# Altium schematic symbol library WeatherStations.SchLib: 10 symbols
Pins are listed as number, name and electrical type; pins without a type are passive.

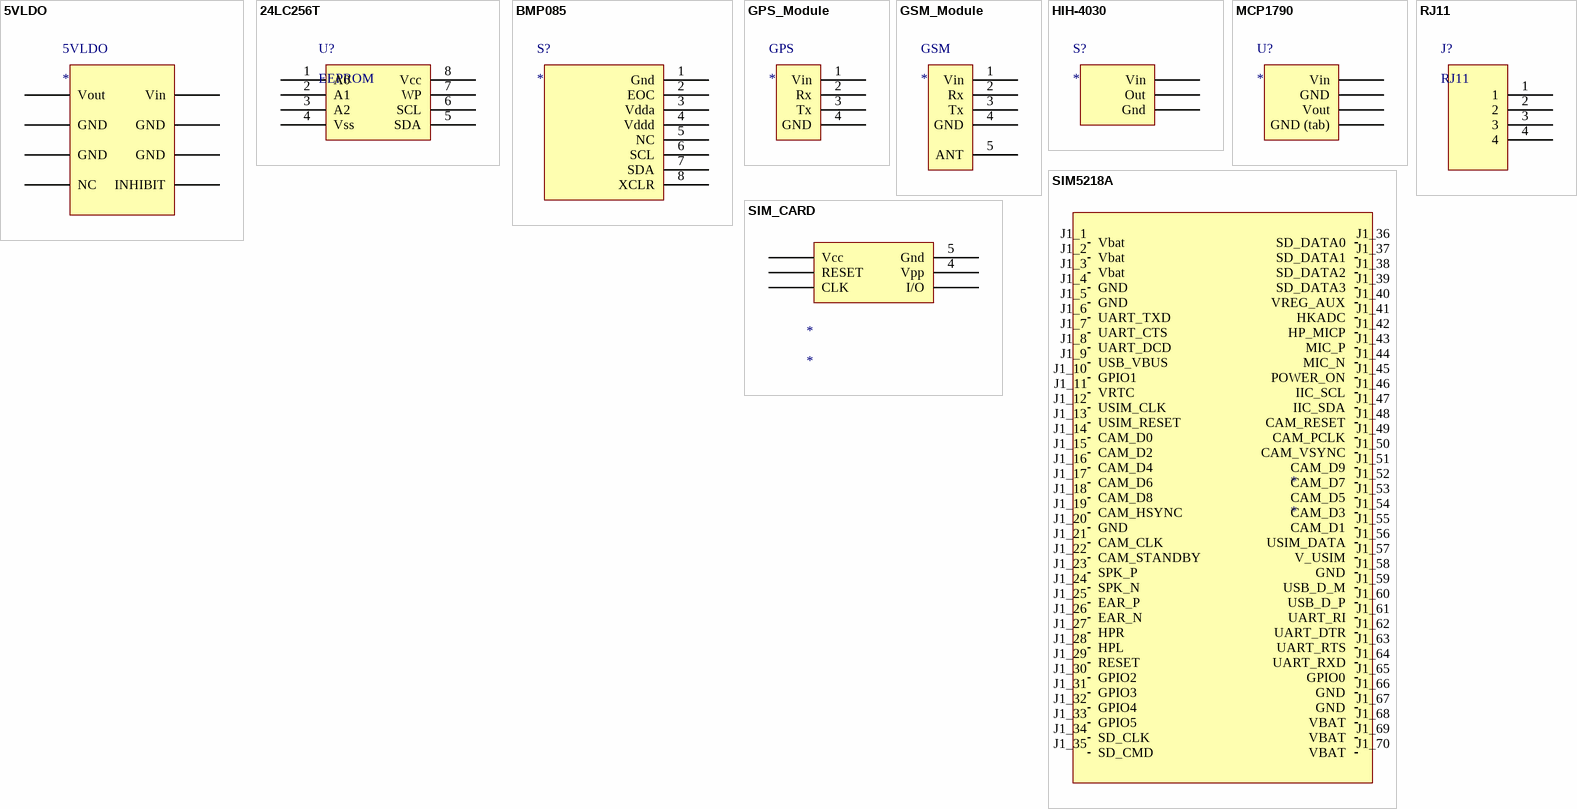
[diagram p0: symbols 5VLDO to SIM_CARD]

## 5VLDO
designator 5VLDO
footprint SO8
pins: 1 Vout, 2 GND, 3 GND, 4 NC, 5 INHIBIT, 6 GND, 7 GND, 8 Vin

## 24LC256T
designator U?, comment EEPROM
footprint SO8
pins: 1 A0, 2 A1, 3 A2, 4 Vss, 5 SDA, 6 SCL, 7 WP, 8 Vcc

## BMP085
designator S?
footprint BMP085
pins: 1 Gnd, 2 EOC, 3 Vdda, 4 Vddd, 5 NC, 6 SCL, 7 SDA, 8 XCLR

## GPS_Module
designator GPS
footprint GPS_footprint
pins: 1 Vin, 2 Rx, 3 Tx, 4 GND

## GSM_Module
designator GSM
footprint GSM_footprint
pins: 1 Vin, 2 Rx, 3 Tx, 4 GND, 5 ANT

## HIH-4030
designator S?
footprint HIH-4030
pins: 0 Vin, 1 Out, 2 Gnd

## MCP1790
designator U?
footprint SOT223-3
pins: 0 Vin, 1 GND, 2 Vout, 3 GND (tab)

## RJ11
designator J?
footprint RJ11_4
pins: 1, 2, 3, 4

## SIM5218A
designator *
footprint AVX-5602-J1 (Receptacle Vertical SMT Without metal tab)
pins: J1_1 Vbat (io) "Use to trigger", J1_2 Vbat (io), J1_3 Vbat (io), J1_4 GND (io), J1_5 GND (io), J1_6 UART_TXD (io), J1_7 UART_CTS (io), J1_8 UART_DCD (io), J1_9 USB_VBUS (io), J1_10 GPIO1 (io), J1_11 VRTC (io), J1_12 USIM_CLK (io), J1_13 USIM_RESET (io), J1_14 CAM_D0 (io), J1_15 CAM_D2 (io), J1_16 CAM_D4 (io), J1_17 CAM_D6 (io), J1_18 CAM_D8 (io), J1_19 CAM_HSYNC (io), J1_20 GND (io), J1_21 CAM_CLK (io), J1_22 CAM_STANDBY (io), J1_23 SPK_P (io), J1_24 SPK_N (io), J1_25 EAR_P (io), J1_26 EAR_N (io), J1_27 HPR (io), J1_28 HPL (io), J1_29 RESET (io), J1_30 GPIO2 (io), J1_31 GPIO3 (io), J1_32 GPIO4 (io), J1_33 GPIO5 (io), J1_34 SD_CLK (io), J1_35 SD_CMD (io), J1_36 SD_DATA0 (io), J1_37 SD_DATA1 (io), J1_38 SD_DATA2 (io), J1_39 SD_DATA3 (io), J1_40 VREG_AUX (io), J1_41 HKADC (io), J1_42 HP_MICP (io), J1_43 MIC_P (io), J1_44 MIC_N (io), J1_45 POWER_ON (io), J1_46 IIC_SCL (io), J1_47 IIC_SDA (io), J1_48 CAM_RESET (io), J1_49 CAM_PCLK (io), J1_50 CAM_VSYNC (power), J1_51 CAM_D9 (io), J1_52 CAM_D7 (power) "Backup battery input to PMIC", J1_53 CAM_D5 (io), J1_54 CAM_D3 (io) "power out from the PMIC", J1_55 CAM_D1 (io), J1_56 USIM_DATA (power), J1_57 V_USIM (io), J1_58 GND (io), J1_59 USB_D_M (io) "Connected to SYSEN on PMIC", J1_60 USB_D_P (io), J1_61 UART_RI (io), J1_62 UART_DTR (io), J1_63 UART_RTS (io), J1_64 UART_RXD (io), J1_65 GPIO0 (io) "Connected to PWRON on PMIC", J1_66 GND (power) "board supply: 3.3V - 4.2V", J1_67 GND (power) "board supply: 3.3V - 4.2V", J1_68 VBAT (io), J1_69 VBAT (io), J1_70 VBAT (power)

## SIM_CARD
designator *
pins: 0 Vcc, 1 RESET, 2 CLK, 3 I/O, 4 Vpp, 5 Gnd